# Altium footprint library SOT-223.PcbLib: 1 footprints
Each footprint in its own frame and in the unit in brackets; x right, y up, seen from the top. Pads: shape width x height; smd on the part's side, far side on the other; paste and mask are expansions set on the pad; w line width, h text height; cw(c..) or ccw(c..) is an arc to the next point about the centre after c.
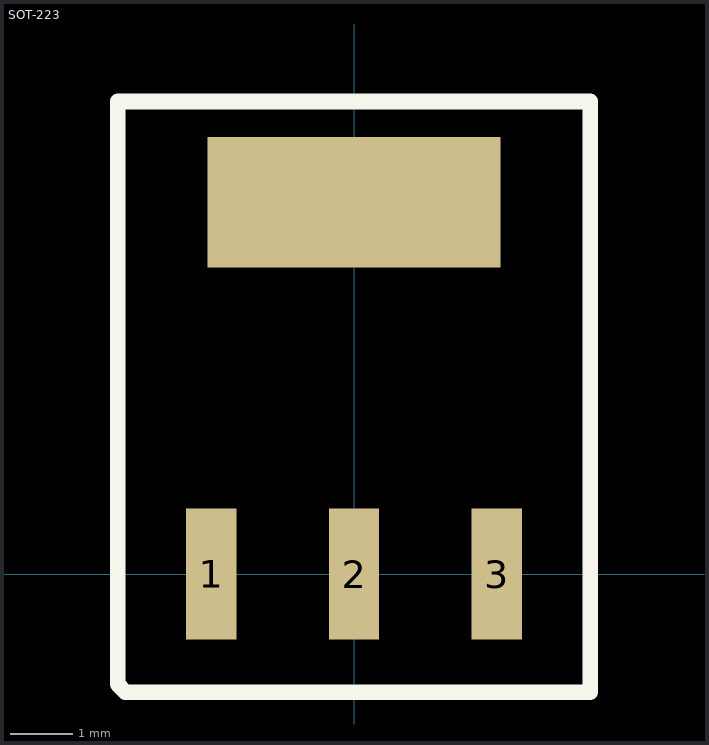
[diagram p0: the footprint, top view; thin cyan lines are the x and y axes]

## SOT-223 [mil]
pads (4):
  rect 32x83 smd: 1(-90.5,0) 2(0,0) 3(90.5,0)
  rect 186x83 smd: ""(0,236)
Top Overlay:
  lines w10: -150,-70 -145,-75 150,-75 150,300 -150,300 -150,-70